# EAGLE library part ISPG22V10 (library AMD_Taxi)
Lattice ispGAL
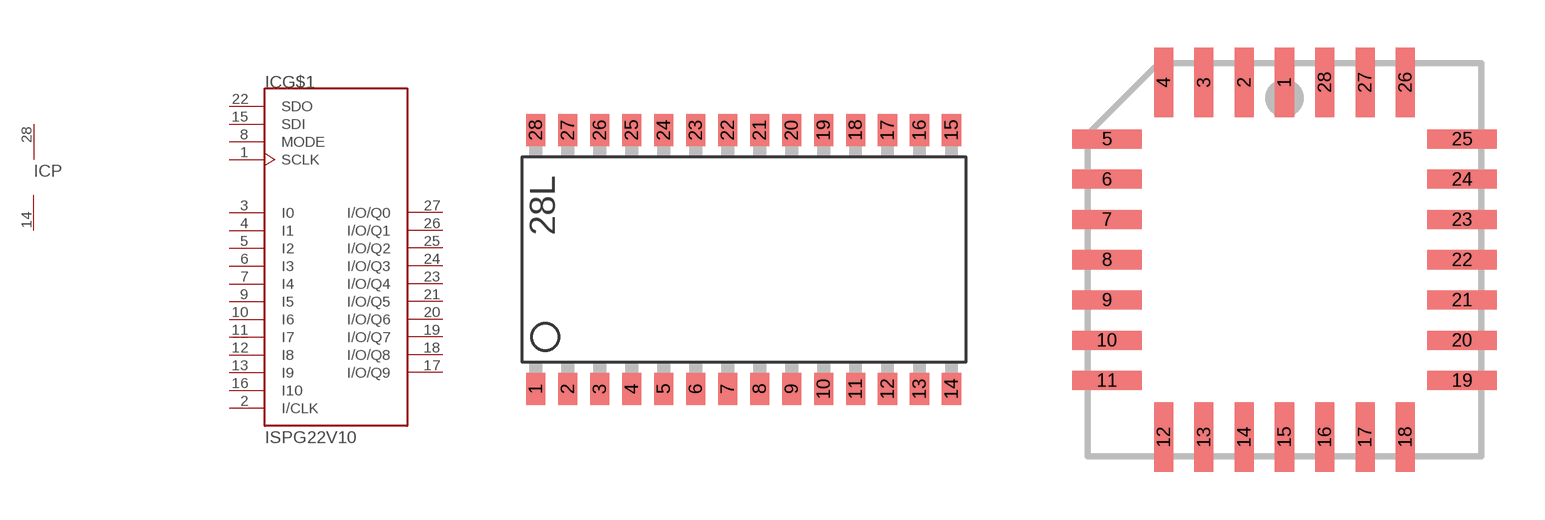
[diagram p1: symbol with the pads of SO28; footprints SO28, PLCC28S]

Designator prefix IC; gates G$1=ISPG22V1 P=PWRN

## ISPG22V10C  [SO28]
1  G$1:SCLK  in
2  G$1:I/CLK  in
3  G$1:I0  in
4  G$1:I1  in
5  G$1:I2  in
6  G$1:I3  in
7  G$1:I4  in
8  G$1:MODE  in
9  G$1:I5  in
10  G$1:I6  in
11  G$1:I7  in
12  G$1:I8  in
13  G$1:I9  in
14  P:GND  pwr
15  G$1:SDI  in
16  G$1:I10  in
17  G$1:I/O/Q9
18  G$1:I/O/Q8
19  G$1:I/O/Q7
20  G$1:I/O/Q6
21  G$1:I/O/Q5
22  G$1:SDO  out
23  G$1:I/O/Q4
24  G$1:I/O/Q3
25  G$1:I/O/Q2
26  G$1:I/O/Q1
27  G$1:I/O/Q0
28  P:VCC  pwr

## ISPG22V10B  [PLCC28S]
1  G$1:SCLK  in
2  G$1:I/CLK  in
3  G$1:I0  in
4  G$1:I1  in
5  G$1:I2  in
6  G$1:I3  in
7  G$1:I4  in
8  G$1:MODE  in
9  G$1:I5  in
10  G$1:I6  in
11  G$1:I7  in
12  G$1:I8  in
13  G$1:I9  in
14  P:GND  pwr
15  G$1:SDI  in
16  G$1:I10  in
17  G$1:I/O/Q0
18  G$1:I/O/Q1
19  G$1:I/O/Q2
20  G$1:I/O/Q3
21  G$1:I/O/Q4
22  G$1:SDO  out
23  G$1:I/O/Q5
24  G$1:I/O/Q6
25  G$1:I/O/Q7
26  G$1:I/O/Q8
27  G$1:I/O/Q9
28  P:VCC  pwr

## Footprint SO28 (pad centres in mm)
smd 0.762 x 1.27: 1 -7.62,-5.207; 2 -6.35,-5.207; 3 -5.08,-5.207; 4 -3.81,-5.207; 5 -2.54,-5.207; 6 -1.27,-5.207; 7 0,-5.207; 8 1.27,-5.207; 9 2.54,-5.207; 10 3.81,-5.207; 11 5.08,-5.207; 12 6.35,-5.207; 13 7.62,-5.207; 14 8.89,-5.207; 15 8.89,5.08; 16 7.62,5.08; 17 6.35,5.08; 18 5.08,5.08; 19 3.81,5.08; 20 2.54,5.08; 21 1.27,5.08; 22 0,5.08; 23 -1.27,5.08; 24 -2.54,5.08; 25 -3.81,5.08; 26 -5.08,5.08; 27 -6.35,5.08; 28 -7.62,5.08

## Footprint PLCC28S (pad centres in mm)
smd 0.6 x 2.2: 1 0,5.6; 2 -1.27,5.6; 3 -2.54,5.6; 4 -3.81,5.6; 12 -3.81,-5.6; 13 -2.54,-5.6; 14 -1.27,-5.6; 15 0,-5.6; 16 1.27,-5.6; 17 2.54,-5.6; 18 3.81,-5.6; 26 3.81,5.6; 27 2.54,5.6; 28 1.27,5.6
smd 2.2 x 0.6: 5 -5.6,3.81; 6 -5.6,2.54; 7 -5.6,1.27; 8 -5.6,0; 9 -5.6,-1.27; 10 -5.6,-2.54; 11 -5.6,-3.81; 19 5.6,-3.81; 20 5.6,-2.54; 21 5.6,-1.27; 22 5.6,0; 23 5.6,1.27; 24 5.6,2.54; 25 5.6,3.81